# Altium footprint library HC12.PcbLib: 1 footprints
Each footprint in its own frame and in the unit in brackets; x right, y up, seen from the top. Pads: shape width x height; smd on the part's side, far side on the other; paste and mask are expansions set on the pad; w line width, h text height; cw(c..) or ccw(c..) is an arc to the next point about the centre after c.
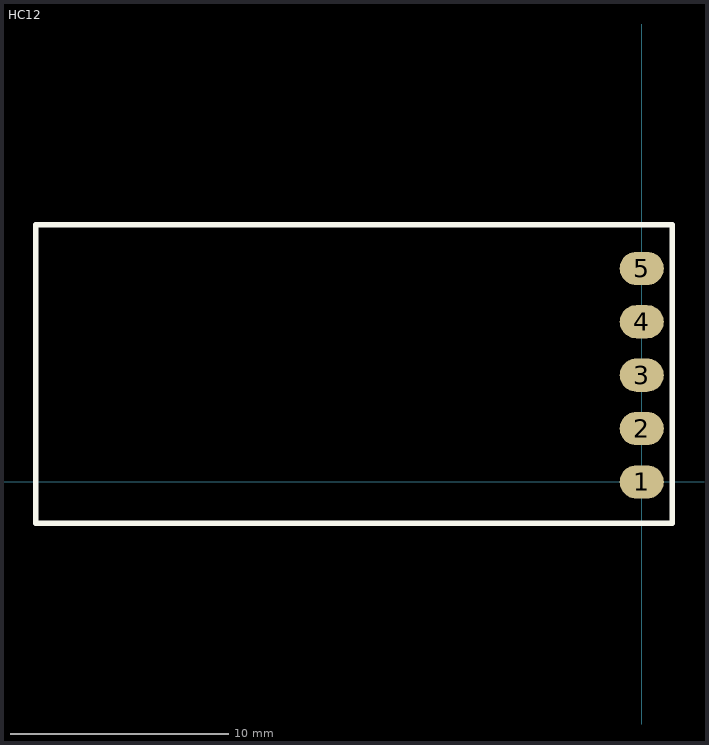
[diagram p0: the footprint, top view; thin cyan lines are the x and y axes]

## HC12 [mil]
pads (5):
  oval 80x60 smd: 1(0,0) 2(0,96.46) 3(0,192.91) 4(0,289.37) 5(0,385.83)
Top Overlay:
  lines w10: -1095,-75 40,-75 55,-75 55,465 -1095,465 -1095,-75
3D body: height 10, standoff 0, extent -975,455 -975,455
3D body: height 10, standoff 0, extent -880,440 -880,440
3D body: height 10, standoff 0, extent 10,10 10,10
3D body: height 10, standoff 0, extent -230,335 -230,335
3D body: height 10, standoff 0, extent -220,320 -220,320
3D body "HC-12 SI4463 WIRELESS SERIAL MODULE.STEP": height 1019.68, standoff 0, extent -1089.12,-66.81 1.34,456.81